# EAGLE library part MIC4576WU (library ozlollc)
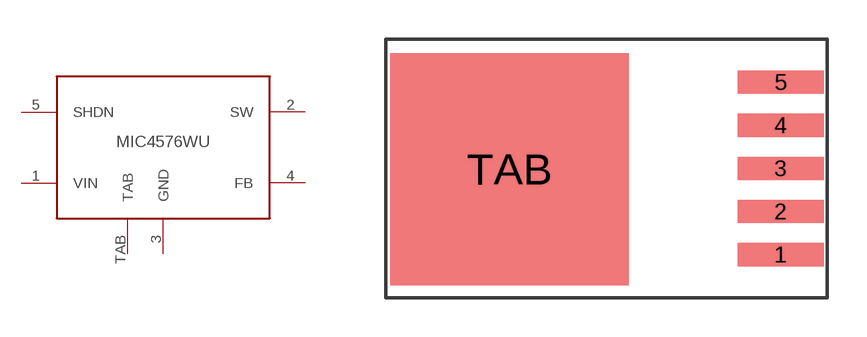
[diagram p2: symbol with the pads of TO263-5; footprint TO263-5]

Designator prefix -

## MIC4576WU  [TO263-5]
1  VIN
2  SW
3  GND
4  FB
5  SHDN
TAB  TAB

## Footprint TO263-5 (pad centres in mm)
smd 3.302 x 0.889: 1 7.112,-3.302; 2 7.112,-1.651; 3 7.112,0; 4 7.112,1.651; 5 7.112,3.302
smd 9.12 x 8.89: TAB -3.261,-0.03